# Altium schematic symbol library AudioJack_3.5mm.SchLib: 1 symbol
Pins are listed as number, name and electrical type; pins without a type are passive.

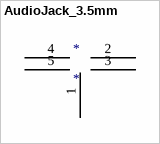
[diagram p0: symbol AudioJack_3.5mm]

## AudioJack_3.5mm
designator *
footprint AudioJack_3.5mm
pins: 1 外环, 2 中环, 3 中环, 4 内环, 5 内环